# EAGLE library part PINHD-2X7 (library pinhead)
PIN HEADER
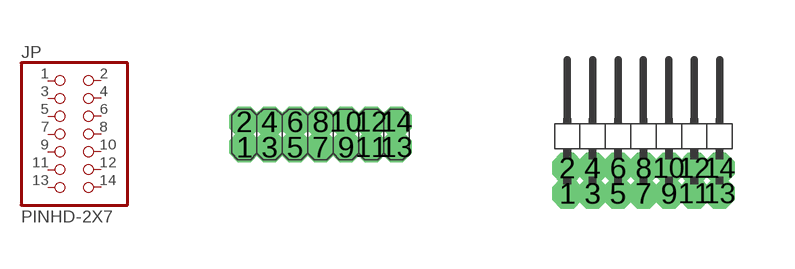
[diagram p24: symbol with the pads of 2X07; footprints 2X07, 2X07/90]

Designator prefix JP

## PINHD-2X7  [2X07]
1  1  pas
2  2  pas
3  3  pas
4  4  pas
5  5  pas
6  6  pas
7  7  pas
8  8  pas
9  9  pas
10  10  pas
11  11  pas
12  12  pas
13  13  pas
14  14  pas

## PINHD-2X7/90  [2X07/90]
Pads as for 2X07

## Footprint 2X07 (pad centres in mm)
PIN HEADER
drill 0.254 octagon: 1 -1.905,-0.318; 2 -1.905,0.318; 3 -1.27,-0.318; 4 -1.27,0.318; 5 -0.635,-0.318; 6 -0.635,0.318; 7 0,-0.318; 8 0,0.318; 9 0.635,-0.318; 10 0.635,0.318; 11 1.27,-0.318; 12 1.27,0.318; 13 1.905,-0.318; 14 1.905,0.318

## Footprint 2X07/90 (pad centres in mm)
PIN HEADER
drill 0.254 octagon: 1 -1.905,-1.587; 2 -1.905,-0.953; 3 -1.27,-1.587; 4 -1.27,-0.953; 5 -0.635,-1.587; 6 -0.635,-0.953; 7 0,-1.587; 8 0,-0.953; 9 0.635,-1.587; 10 0.635,-0.953; 11 1.27,-1.587; 12 1.27,-0.953; 13 1.905,-1.587; 14 1.905,-0.953